# Altium footprint library mcp73832.PcbLib: 1 footprints
Each footprint in its own frame and in the unit in brackets; x right, y up, seen from the top. Pads: shape width x height; smd on the part's side, far side on the other; paste and mask are expansions set on the pad; w line width, h text height; cw(c..) or ccw(c..) is an arc to the next point about the centre after c.
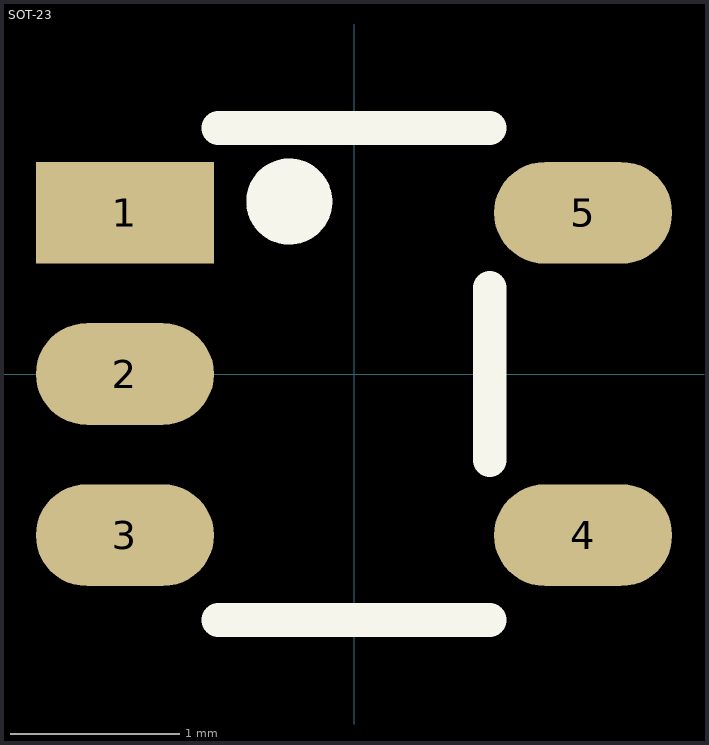
[diagram p0: the footprint, top view; thin cyan lines are the x and y axes]

## SOT-23 [mm]
pads (5):
  rect 1.05x0.6 smd: 1(-1.35,0.95)
  oval 1.05x0.6 smd: 2(-1.35,0) 3(-1.35,-0.95) 4(1.35,-0.95) 5(1.35,0.95)
Top Overlay:
  circle w0.254: c-0.381,1.016 r0.127
  lines w0.2: -0.8,-1.45 0.8,-1.45 ; -0.8,1.45 0.8,1.45 ; 0.8,-0.508 0.8,0.508
3D body: height 1.08, standoff -0.01, extent -1.422,-1.461 1.423,1.461